# Altium footprint library RESAD2900W85L1100D450.PcbLib: 1 footprints
Each footprint in its own frame and in the unit in brackets; x right, y up, seen from the top. Pads: shape width x height; smd on the part's side, far side on the other; paste and mask are expansions set on the pad; w line width, h text height; cw(c..) or ccw(c..) is an arc to the next point about the centre after c.
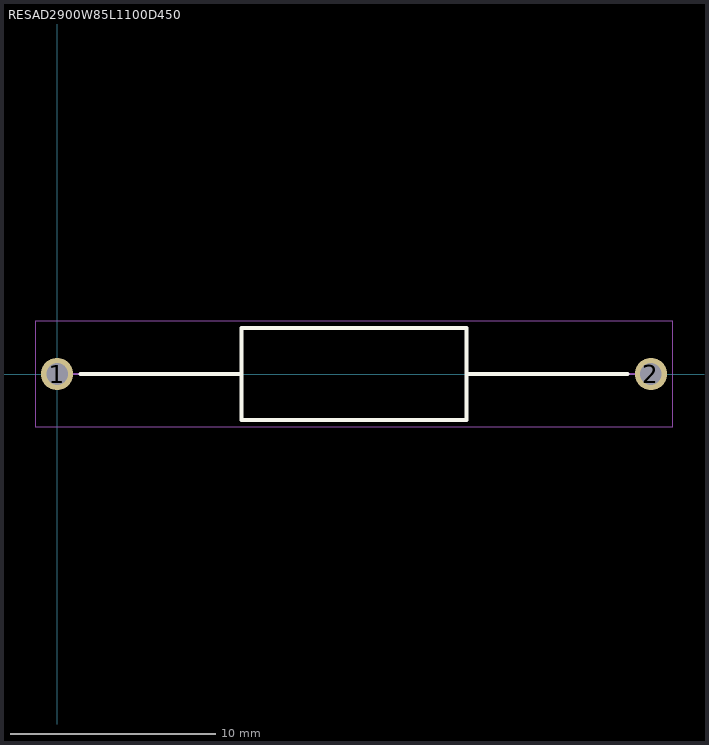
[diagram p0: the footprint, top view; thin cyan lines are the x and y axes]

## RESAD2900W85L1100D450 [mm]
pads (2):
  round 1.575 hole 1.05: 1(0,0) 2(29,0)
Top Overlay:
  lines w0.2: 1.138,0 9,0 ; 20,0 27.862,0 ; 9,-2.25 20,-2.25 20,2.25 9,2.25 9,-2.25
Mechanical 15:
  lines w0.1: 0,0 9,0 ; 20,0 29,0 ; 9,-2.25 20,-2.25 20,2.25 9,2.25 9,-2.25
Mechanical 20:
  lines w0.05: -1.038,-2.6 30.037,-2.6 30.037,2.6 -1.038,2.6 -1.038,-2.6